# EAGLE library part R7FA4M1AB3CFM (library FaBo-MPU)
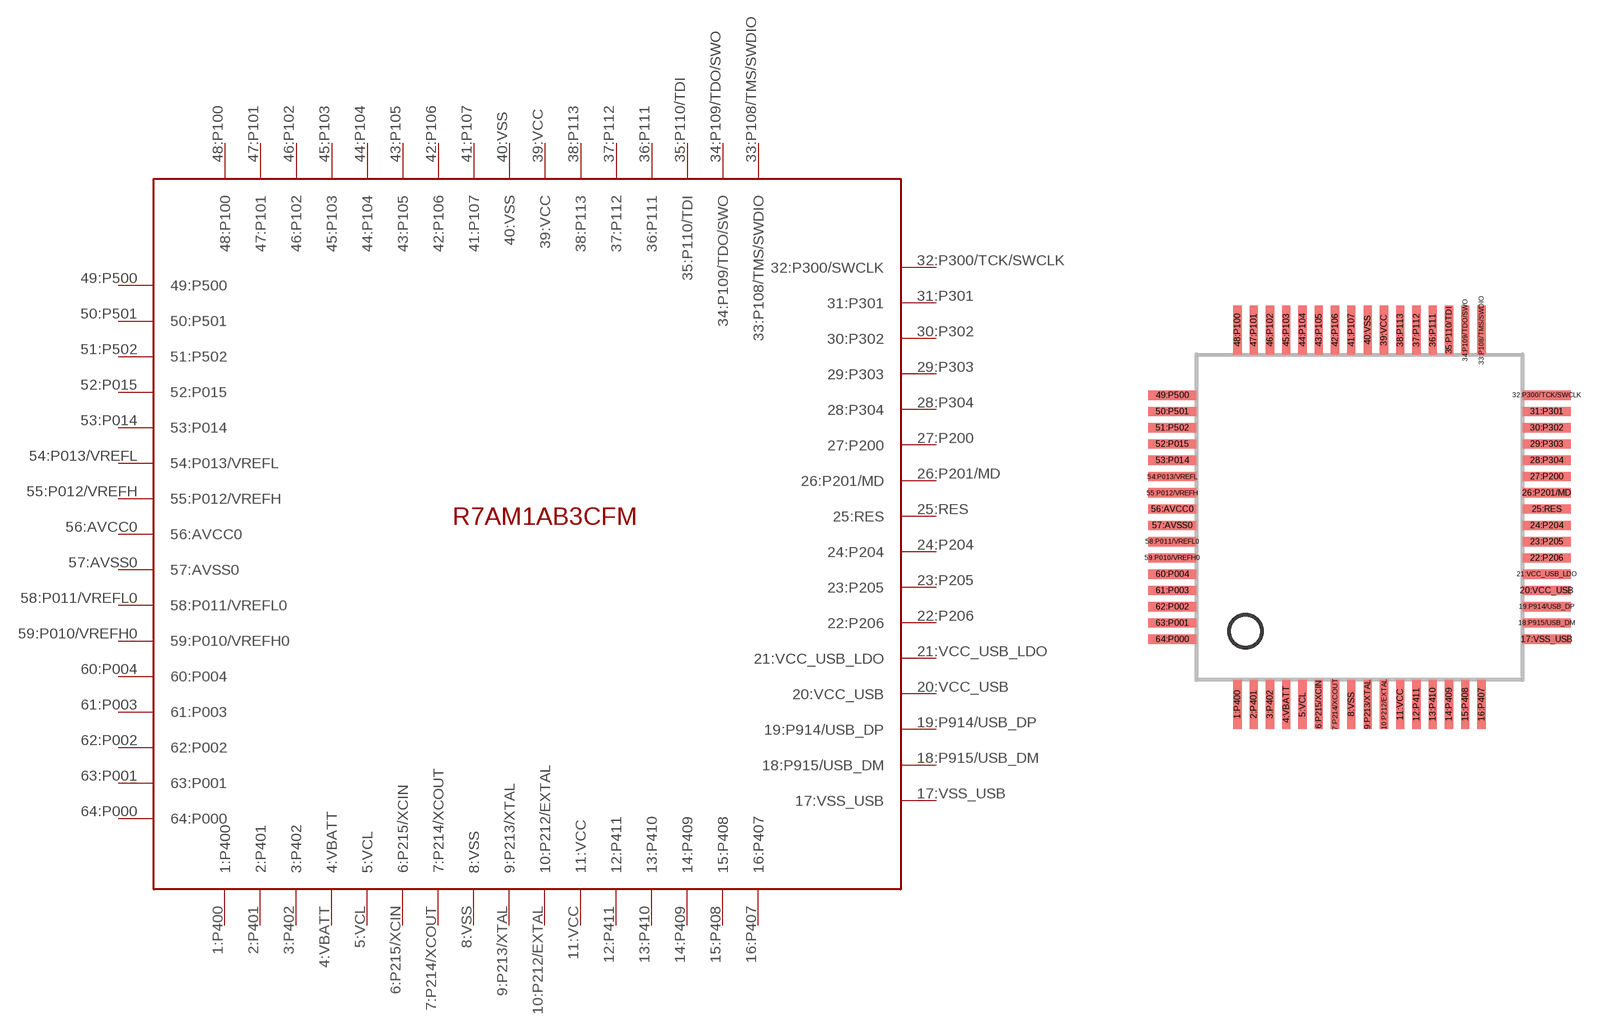
[diagram p12: symbol with the pads of LQFP-64_RENESAS; footprint LQFP-64_RENESAS]

Designator prefix -

## R7FA4M1AB3CFM  [LQFP-64_RENESAS]
1:P400  1:P400
2:P401  2:P401
3:P402  3:P402
4:VBATT  4:VBATT
5:VCL  5:VCL
6:P215/XCIN  6:P215/XCIN
7:P214/XCOUT  7:P214/XCOUT
8:VSS  8:VSS
9:P213/XTAL  9:P213/XTAL
10:P212/EXTAL  10:P212/EXTAL
11:VCC  11:VCC
12:P411  12:P411
13:P410  13:P410
14:P409  14:P409
15:P408  15:P408
16:P407  16:P407
17:VSS_USB  17:VSS_USB
18:P915/USB_DM  18:P915/USB_DM
19:P914/USB_DP  19:P914/USB_DP
20:VCC_USB  20:VCC_USB
21:VCC_USB_LDO  21:VCC_USB_LDO
22:P206  22:P206
23:P205  23:P205
24:P204  24:P204
25:RES  25:RES
26:P201/MD  26:P201/MD
27:P200  27:P200
28:P304  28:P304
29:P303  29:P303
30:P302  30:P302
31:P301  31:P301
32:P300/TCK/SWCLK  32:P300/SWCLK
33:P108/TMS/SWDIO  33:P108/TMS/SWDIO
34:P109/TDO/SWO  34:P109/TDO/SWO
35:P110/TDI  35:P110/TDI
36:P111  36:P111
37:P112  37:P112
38:P113  38:P113
39:VCC  39:VCC
40:VSS  40:VSS
41:P107  41:P107
42:P106  42:P106
43:P105  43:P105
44:P104  44:P104
45:P103  45:P103
46:P102  46:P102
47:P101  47:P101
48:P100  48:P100
49:P500  49:P500
50:P501  50:P501
51:P502  51:P502
52:P015  52:P015
53:P014  53:P014
54:P013/VREFL  54:P013/VREFL
55:P012/VREFH  55:P012/VREFH
56:AVCC0  56:AVCC0
57:AVSS0  57:AVSS0
58:P011/VREFL0  58:P011/VREFL0
59:P010/VREFH0  59:P010/VREFH0
60:P004  60:P004
61:P003  61:P003
62:P002  62:P002
63:P001  63:P001
64:P000  64:P000

## Footprint LQFP-64_RENESAS (pad centres in mm)
smd 0.28 x 1.5: 1:P400 -3.75,-5.75; 2:P401 -3.25,-5.75; 3:P402 -2.75,-5.75; 4:VBATT -2.25,-5.75; 5:VCL -1.75,-5.75; 6:P215/XCIN -1.25,-5.75; 7:P214/XCOUT -0.75,-5.75; 8:VSS -0.25,-5.75; 9:P213/XTAL 0.25,-5.75; 10:P212/EXTAL 0.75,-5.75; 11:VCC 1.25,-5.75; 12:P411 1.75,-5.75; 13:P410 2.25,-5.75; 14:P409 2.75,-5.75; 15:P408 3.25,-5.75; 16:P407 3.75,-5.75; 33:P108/TMS/SWDIO 3.75,5.75; 34:P109/TDO/SWO 3.25,5.75; 35:P110/TDI 2.75,5.75; 36:P111 2.25,5.75; 37:P112 1.75,5.75; 38:P113 1.25,5.75; 39:VCC 0.75,5.75; 40:VSS 0.25,5.75; 41:P107 -0.25,5.75; 42:P106 -0.75,5.75; 43:P105 -1.25,5.75; 44:P104 -1.75,5.75; 45:P103 -2.25,5.75; 46:P102 -2.75,5.75; 47:P101 -3.25,5.75; 48:P100 -3.75,5.75
smd 1.5 x 0.28: 17:VSS_USB 5.75,-3.75; 18:P915/USB_DM 5.75,-3.25; 19:P914/USB_DP 5.75,-2.75; 20:VCC_USB 5.75,-2.25; 21:VCC_USB_LDO 5.75,-1.75; 22:P206 5.75,-1.25; 23:P205 5.75,-0.75; 24:P204 5.75,-0.25; 25:RES 5.75,0.25; 26:P201/MD 5.75,0.75; 27:P200 5.75,1.25; 28:P304 5.75,1.75; 29:P303 5.75,2.25; 30:P302 5.75,2.75; 31:P301 5.75,3.25; 32:P300/TCK/SWCLK 5.75,3.75; 49:P500 -5.75,3.75; 50:P501 -5.75,3.25; 51:P502 -5.75,2.75; 52:P015 -5.75,2.25; 53:P014 -5.75,1.75; 54:P013/VREFL -5.75,1.25; 55:P012/VREFH -5.75,0.75; 56:AVCC0 -5.75,0.25; 57:AVSS0 -5.75,-0.25; 58:P011/VREFL0 -5.75,-0.75; 59:P010/VREFH0 -5.75,-1.25; 60:P004 -5.75,-1.75; 61:P003 -5.75,-2.25; 62:P002 -5.75,-2.75; 63:P001 -5.75,-3.25; 64:P000 -5.75,-3.75